# Altium schematic symbol library Inductor.SchLib: 9 symbols
Pins are listed as number, name and electrical type; pins without a type are passive.

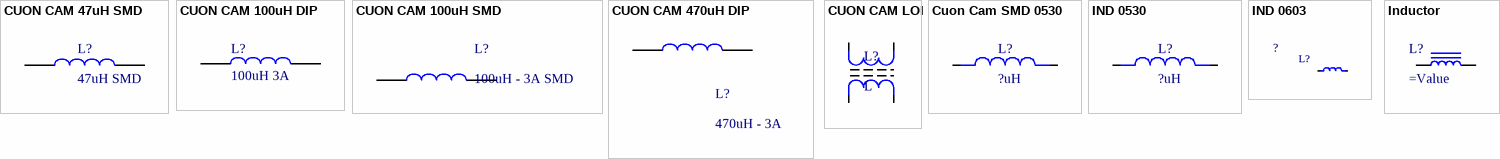
[diagram p0: symbols CUON CAM 47uH SMD to Inductor]

## CUON CAM 47uH SMD
designator L?, comment 47uH SMD
Dán; Don_Vi: Con; Ma_Hang: MH004211; Ten_Linh_Kien: Cuộn Cảm 47uH 7x7x4MM CD74R; Ghi_Chu: *; Kieu_Chan: *; Chung_Loai: Dán
footprint Cuon Cam 7x7x5
pins: 1, 2

## CUON CAM 100uH DIP
designator L?, comment 100uH 3A
Dán; Don_Vi: Con; Ma_Hang: MH002209; Ten_Linh_Kien: Cuộn Cảm 100uH 3A 8x10MM; Chung_Loai: Dán; Ghi Chu: *; Kieu Chan: *
footprint CUON CAM 100uH3A (100uH3A)
pins: 1, 2

## CUON CAM 100uH SMD
designator L?, comment 100uH - 3A SMD
Dán; Don_Vi: Con; Ma_Hang: MH003999; Ten_Linh_Kien: Cuộn Cảm 100uH 7x7x4MM CD74; Ma_Hang: *; Kieu_Chan: *; Chung_Loai: Dán
footprint Cuon Cam 12x12x10
pins: 1, 2

## CUON CAM 470uH DIP
designator L?, comment 470uH - 3A
Cắm; Don_Vi: Con; Ma_Hang: MH002232; Ten_Linh_Kien: Cuộn Cảm 470uH 3A 8x10MM; Ghi_Chu: *; Kieu_Chan: *; Chung_Loai: Cắm
footprint CUON CAM 100uH3A (100uH3A)
pins: 1, 2

## CUON CAM LOI
designator L?, comment L
CUON CAM LOI; Value: Loc 220; Designed by: VanDungEvn
footprint L2x220 (Footprint not found)
pins: 1, 2, 3, 4

## Cuon Cam SMD 0530
designator L?, comment ?uH
SMD 0530; MP: FDV0530-H-1R5M=P3; Package: None; Price: None; Value: *; Availability: Unavailable
footprint CUON CAM SMD 0530
pins: 1, 2

## IND 0530
designator L?, comment ?uH
SMD 0530; MP: FDV0530-H-1R5M=P3; Package: None; Price: None; Value: *; Availability: Unavailable
footprint IND 0530 (IND SMD 0530)
pins: 1, 2

## IND 0603
designator L?, comment ?
C251961 - LCF0603-1R8J-T; BOM_Manufacturer: EMTEK; BOM_Manufacturer Part: HSC0603-1N8J-T; nameAlias: Inductance; Contributor: LCSC; BOM_Supplier: LCSC; BOM_Supplier Part: C251772; spicePre: L; spiceSymbolName: HSC0603-1N8J-T
footprint IND 0603 (INDUCTOR 0603)
pins: 1, 2

## Inductor
designator L?
SMT Inductor
pins: 1, 2